# EAGLE library part NSJ8HC (library NSJ8HC)
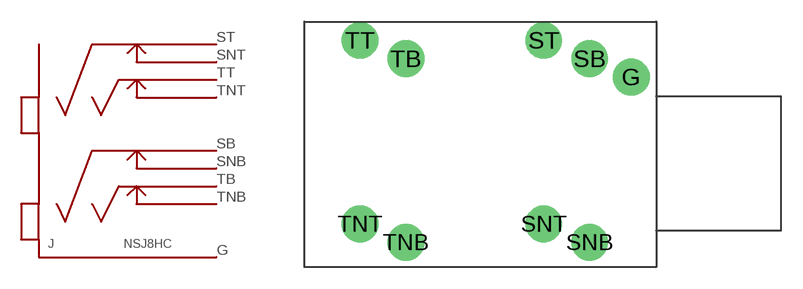
[diagram p0: symbol with the pads of NSJ8HC; footprint NSJ8HC]

Designator prefix J

## NSJ8HC  [NSJ8HC]
G  G
SB  SB
SNB  SNB
SNT  SNT
ST  ST
TB  TB
TNB  TNB
TNT  TNT
TT  TT

## Footprint NSJ8HC (pad centres in mm)
drill 1.5 pad 2.54: G -1.727,5.969; SB -4.597,7.239; SNB -4.597,-5.461; SNT -7.772,-4.191; ST -7.772,8.509; TB -17.297,7.239; TNB -17.297,-5.461; TNT -20.472,-4.191; TT -20.472,8.509